# Altium schematic symbol library TXS0108E.SchLib: 1 symbol
Pins are listed as number, name and electrical type; pins without a type are passive.

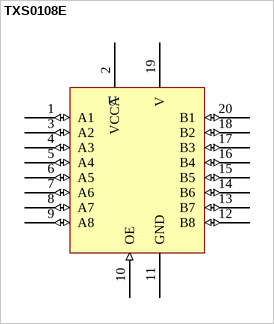
[diagram p0: symbol TXS0108E]

## TXS0108E
designator U  (value not drawn)
IC, SM, LOGIC, TRANSLATOR; farnell: 1702548
footprint TXS0108E (IC, SM, LOGIC, TRANSLATOR)
pins: 1 A1 (io), 2 VCCA (power), 3 A2 (io), 4 A3 (io), 5 A4 (io), 6 A5 (io), 7 A6 (io), 8 A7 (io), 9 A8 (io), 10 OE (in), 11 GND (power), 12 B8 (io), 13 B7 (io), 14 B6 (io), 15 B5 (io), 16 B4 (io), 17 B3 (io), 18 B2 (io), 19 V (power), 20 B1 (io)